# Altium schematic symbol library sensors.SchLib: 8 symbols
Pins are listed as number, name and electrical type; pins without a type are passive.

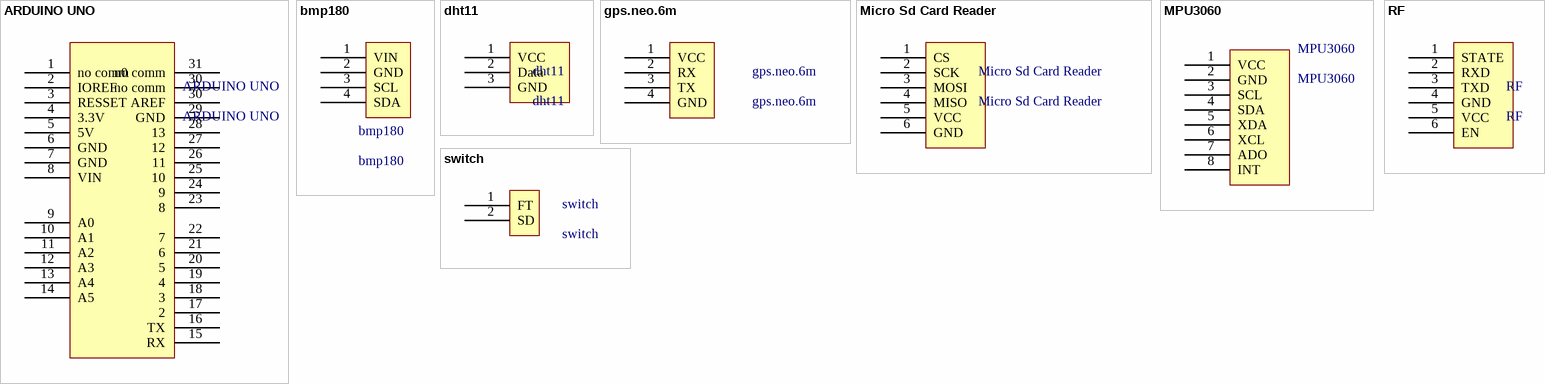
[diagram p0: symbols ARDUINO UNO to switch]

## ARDUINO UNO
designator ARDUINO UNO
footprint ARDUINO UNO
pins: 1 no comm, 2 IOREF, 3 RESSET, 4 3.3V, 5 5V, 6 GND, 7 GND, 8 VIN, 9 A0, 10 A1, 11 A2, 12 A3, 13 A4, 14 A5, 15 RX, 16 TX, 17 2, 18 3, 19 4, 20 5, 21 6, 22 7, 23 8, 24 9, 25 10, 26 11, 27 12, 28 13, 29 GND, 30 AREF, 30 no comm, 31 n0 comm

## bmp180
designator bmp180
footprint BMP180
pins: 1 VIN, 2 GND, 3 SCL, 4 SDA

## dht11
designator dht11
footprint DHT11
pins: 1 VCC, 2 Data, 3 GND

## gps.neo.6m
designator gps.neo.6m
footprint gps.neo.6m
pins: 1 VCC, 2 RX, 3 TX, 4 GND

## Micro Sd Card Reader
designator Micro Sd Card Reader
footprint Micro Sd Card Reader
pins: 1 CS, 2 SCK, 3 MOSI, 4 MISO, 5 VCC, 6 GND

## MPU3060
designator MPU3060
footprint mpu6050
pins: 1 VCC, 2 GND, 3 SCL, 4 SDA, 5 XDA, 6 XCL, 7 ADO, 8 INT

## RF
designator RF
footprint RF
pins: 1 STATE, 2 RXD, 3 TXD, 4 GND, 5 VCC, 6 EN

## switch
designator switch
footprint switch
pins: 1 FT, 2 SD